# Altium integrated library Linear Technology Power Management Switching Regulator LT1074-LT8705.IntLib: 2252 symbols (part 6 of 148)
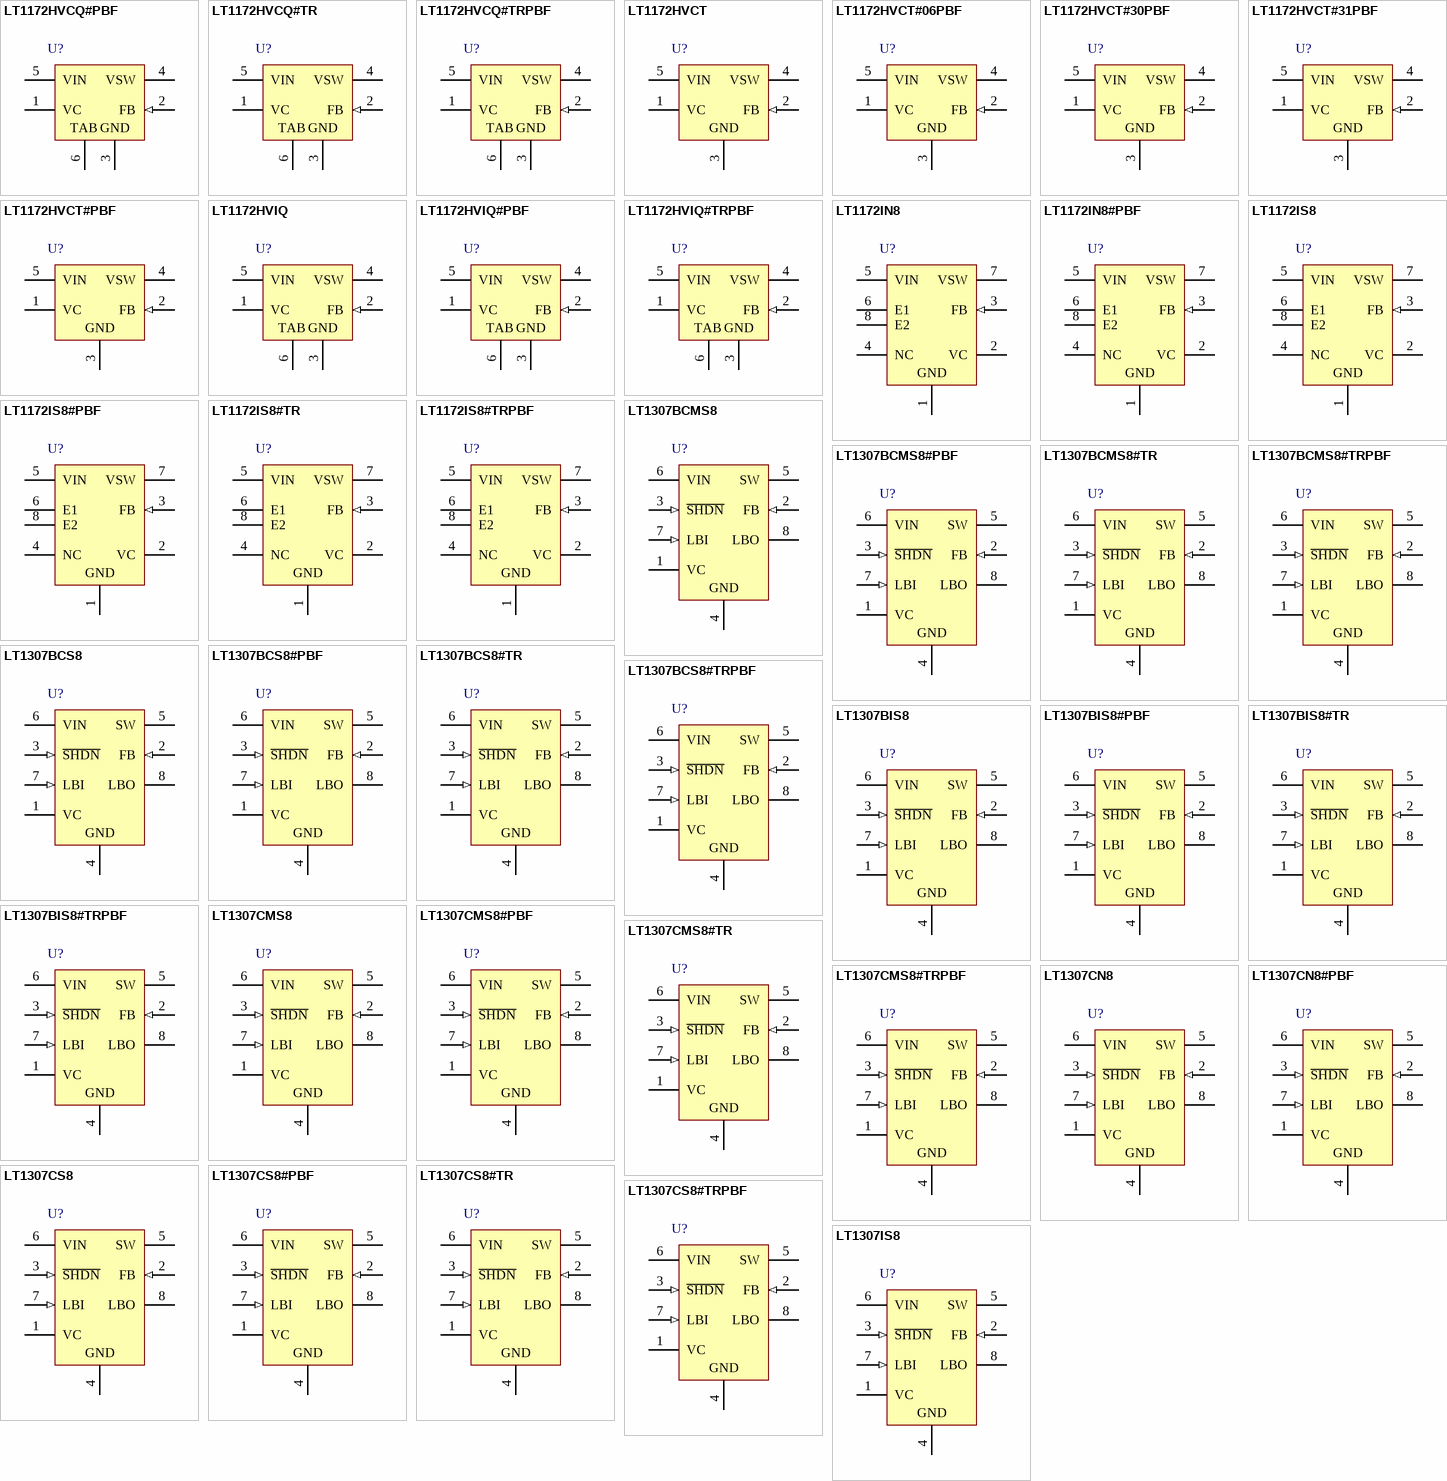
[diagram p76: symbols LT1172HVCQ#PBF to LT1307IS8]

## LT1307BCS8
designator U?
Single Cell Micropower 600 kHz PWM DC/DC Converter, Low-Battery Detector, 8-pin SOIC (S8-8), -20 to 70 degC; Manufacturer: Linear Technology; PartNumber: LT1307BCS8; Number of Outputs: 1; DatasheetVersion: Rev. A; PackageVersion: Rev. G, 03/2012; PackageReference: S8-8; PackageDescription: 8-Pin Plastic Small Outline (Narrow .150 Inch), Body 4.9 x 3.9 mm, Pitch 1.27 mm; Supplier 1: Digi-Key; Supplier Part Number 1: LT1307BCS8-ND; RoHS: FALSE; Mounting Technology: Surface Mount; ComponentLink1Description: Manufacturer URL; ComponentLink1URL: http://www.linear.com/; ComponentLink2Description: Datasheet; ComponentLink2URL: http://cds.linear.com/docs/en/datasheet/1307fa.pdf; ComponentLink3Description: Package Specification; ComponentLink3URL: http://cds.linear.com/docs/en/packaging/05081610_G_SO8.pdf
footprint LT-S8-8_N (SOIC, 8-Leads, Body 5x4mm, Pitch 1.27mm, IPC Medium Density)
footprint LT-S8-8_L (SOIC, 8-Leads, Body 5x4mm, Pitch 1.27mm, IPC High Density)
footprint LT-S8-8_M (SOIC, 8-Leads, Body 5x4mm, Pitch 1.27mm, IPC Low Density)
pins: 1 VC "Compensation Pin for Error Amplifier. Connect a series RC from this pin to ground. Typical values are 100kohm and 680pF. Minimize trace area at VC.", 2 FB (in) "Feedback Pin. Reference voltage is 1.22V. Connect resistor divider tap here. Minimize trace area at FB. Set VOUT according to: VOUT = 1.22V(1 + R1/R2).", 3 ~{SHDN} (in) "Shutdown. Ground this pin to turn off switcher. Must be tied to VIN (or higher voltage) to enable switcher. Do not float the S\H\D\N\ pin.", 4 GND (power) "Ground. Connect directly to local ground plane.", 5 SW "Switch Pin. Connect inductor/diode here. Minimize trace area at this pin to keep EMI down.", 6 VIN (power) "Supply Pin. Must have 1uF ceramic bypass capacitor right at the pin, connected directly to ground.", 7 LBI (in) "Low-Battery Detector Input. 200mV reference. Voltage on LBI must stay between ground and 700mV.", 8 LBO (oc) "Low-Battery Detector Output. Open collector, can sink 10uA. A 1Mohm pull-up is recommended."

## LT1307BCS8#PBF
designator U?
Single Cell Micropower 600 kHz PWM DC/DC Converter, Low-Battery Detector, 8-pin SOIC (S8-8), -20 to 70 degC, Pb-Free; Manufacturer: Linear Technology; PartNumber: LT1307BCS8#PBF; Number of Outputs: 1; DatasheetVersion: Rev. A; PackageVersion: Rev. G, 03/2012; PackageReference: S8-8; PackageDescription: 8-Pin Plastic Small Outline (Narrow .150 Inch), Body 4.9 x 3.9 mm, Pitch 1.27 mm; Supplier 1: Digi-Key; Supplier Part Number 1: LT1307BCS8#PBF-ND; Supplier 2: Farnell; Supplier Part Number 2: 1273725; Supplier 3: Newark; Supplier Part Number 3: 57M3221; RoHS: TRUE; Mounting Technology: Surface Mount; ComponentLink1Description: Manufacturer URL; ComponentLink1URL: http://www.linear.com/; ComponentLink2Description: Datasheet; ComponentLink2URL: http://cds.linear.com/docs/en/datasheet/1307fa.pdf; ComponentLink3Description: Package Specification; ComponentLink3URL: http://cds.linear.com/docs/en/packaging/05081610_G_SO8.pdf
footprint LT-S8-8_N (SOIC, 8-Leads, Body 5x4mm, Pitch 1.27mm, IPC Medium Density)
footprint LT-S8-8_L (SOIC, 8-Leads, Body 5x4mm, Pitch 1.27mm, IPC High Density)
footprint LT-S8-8_M (SOIC, 8-Leads, Body 5x4mm, Pitch 1.27mm, IPC Low Density)
pins: 1 VC "Compensation Pin for Error Amplifier. Connect a series RC from this pin to ground. Typical values are 100kohm and 680pF. Minimize trace area at VC.", 2 FB (in) "Feedback Pin. Reference voltage is 1.22V. Connect resistor divider tap here. Minimize trace area at FB. Set VOUT according to: VOUT = 1.22V(1 + R1/R2).", 3 ~{SHDN} (in) "Shutdown. Ground this pin to turn off switcher. Must be tied to VIN (or higher voltage) to enable switcher. Do not float the S\H\D\N\ pin.", 4 GND (power) "Ground. Connect directly to local ground plane.", 5 SW "Switch Pin. Connect inductor/diode here. Minimize trace area at this pin to keep EMI down.", 6 VIN (power) "Supply Pin. Must have 1uF ceramic bypass capacitor right at the pin, connected directly to ground.", 7 LBI (in) "Low-Battery Detector Input. 200mV reference. Voltage on LBI must stay between ground and 700mV.", 8 LBO (oc) "Low-Battery Detector Output. Open collector, can sink 10uA. A 1Mohm pull-up is recommended."

## LT1307BCS8#TR
designator U?
Single Cell Micropower 600 kHz PWM DC/DC Converter, Low-Battery Detector, 8-pin SOIC (S8-8), -20 to 70 degC, Tape and Reel; Manufacturer: Linear Technology; PartNumber: LT1307BCS8#TR; Number of Outputs: 1; DatasheetVersion: Rev. A; PackageVersion: Rev. G, 03/2012; PackageReference: S8-8; PackageDescription: 8-Pin Plastic Small Outline (Narrow .150 Inch), Body 4.9 x 3.9 mm, Pitch 1.27 mm; Supplier 1: Digi-Key; Supplier Part Number 1: LT1307BCS8#TR-ND; Packing: Tape and Reel; RoHS: FALSE; Mounting Technology: Surface Mount; ComponentLink1Description: Manufacturer URL; ComponentLink1URL: http://www.linear.com/; ComponentLink2Description: Datasheet; ComponentLink2URL: http://cds.linear.com/docs/en/datasheet/1307fa.pdf; ComponentLink3Description: Package Specification; ComponentLink3URL: http://cds.linear.com/docs/en/packaging/05081610_G_SO8.pdf
footprint LT-S8-8_N (SOIC, 8-Leads, Body 5x4mm, Pitch 1.27mm, IPC Medium Density)
footprint LT-S8-8_L (SOIC, 8-Leads, Body 5x4mm, Pitch 1.27mm, IPC High Density)
footprint LT-S8-8_M (SOIC, 8-Leads, Body 5x4mm, Pitch 1.27mm, IPC Low Density)
pins: 1 VC "Compensation Pin for Error Amplifier. Connect a series RC from this pin to ground. Typical values are 100kohm and 680pF. Minimize trace area at VC.", 2 FB (in) "Feedback Pin. Reference voltage is 1.22V. Connect resistor divider tap here. Minimize trace area at FB. Set VOUT according to: VOUT = 1.22V(1 + R1/R2).", 3 ~{SHDN} (in) "Shutdown. Ground this pin to turn off switcher. Must be tied to VIN (or higher voltage) to enable switcher. Do not float the S\H\D\N\ pin.", 4 GND (power) "Ground. Connect directly to local ground plane.", 5 SW "Switch Pin. Connect inductor/diode here. Minimize trace area at this pin to keep EMI down.", 6 VIN (power) "Supply Pin. Must have 1uF ceramic bypass capacitor right at the pin, connected directly to ground.", 7 LBI (in) "Low-Battery Detector Input. 200mV reference. Voltage on LBI must stay between ground and 700mV.", 8 LBO (oc) "Low-Battery Detector Output. Open collector, can sink 10uA. A 1Mohm pull-up is recommended."

## LT1307BCS8#TRPBF
designator U?
Single Cell Micropower 600 kHz PWM DC/DC Converter, Low-Battery Detector, 8-pin SOIC (S8-8), -20 to 70 degC, Pb-Free, Tape and Reel; Manufacturer: Linear Technology; PartNumber: LT1307BCS8#TRPBF; Number of Outputs: 1; DatasheetVersion: Rev. A; PackageVersion: Rev. G, 03/2012; PackageReference: S8-8; PackageDescription: 8-Pin Plastic Small Outline (Narrow .150 Inch), Body 4.9 x 3.9 mm, Pitch 1.27 mm; Supplier 1: Digi-Key; Supplier Part Number 1: LT1307BCS8#TRPBF-ND; Packing: Tape and Reel; RoHS: TRUE; Mounting Technology: Surface Mount; ComponentLink1Description: Manufacturer URL; ComponentLink1URL: http://www.linear.com/; ComponentLink2Description: Datasheet; ComponentLink2URL: http://cds.linear.com/docs/en/datasheet/1307fa.pdf; ComponentLink3Description: Package Specification; ComponentLink3URL: http://cds.linear.com/docs/en/packaging/05081610_G_SO8.pdf
footprint LT-S8-8_N (SOIC, 8-Leads, Body 5x4mm, Pitch 1.27mm, IPC Medium Density)
footprint LT-S8-8_L (SOIC, 8-Leads, Body 5x4mm, Pitch 1.27mm, IPC High Density)
footprint LT-S8-8_M (SOIC, 8-Leads, Body 5x4mm, Pitch 1.27mm, IPC Low Density)
pins: 1 VC "Compensation Pin for Error Amplifier. Connect a series RC from this pin to ground. Typical values are 100kohm and 680pF. Minimize trace area at VC.", 2 FB (in) "Feedback Pin. Reference voltage is 1.22V. Connect resistor divider tap here. Minimize trace area at FB. Set VOUT according to: VOUT = 1.22V(1 + R1/R2).", 3 ~{SHDN} (in) "Shutdown. Ground this pin to turn off switcher. Must be tied to VIN (or higher voltage) to enable switcher. Do not float the S\H\D\N\ pin.", 4 GND (power) "Ground. Connect directly to local ground plane.", 5 SW "Switch Pin. Connect inductor/diode here. Minimize trace area at this pin to keep EMI down.", 6 VIN (power) "Supply Pin. Must have 1uF ceramic bypass capacitor right at the pin, connected directly to ground.", 7 LBI (in) "Low-Battery Detector Input. 200mV reference. Voltage on LBI must stay between ground and 700mV.", 8 LBO (oc) "Low-Battery Detector Output. Open collector, can sink 10uA. A 1Mohm pull-up is recommended."

## LT1307BIS8
designator U?
Single Cell Micropower 600 kHz PWM DC/DC Converter, Low-Battery Detector, 8-pin SOIC (S8-8), -40 to 85 degC; Manufacturer: Linear Technology; PartNumber: LT1307BIS8; Number of Outputs: 1; DatasheetVersion: Rev. A; PackageVersion: Rev. G, 03/2012; PackageReference: S8-8; PackageDescription: 8-Pin Plastic Small Outline (Narrow .150 Inch), Body 4.9 x 3.9 mm, Pitch 1.27 mm; Supplier 1: Digi-Key; Supplier Part Number 1: LT1307BIS8-ND; RoHS: FALSE; Mounting Technology: Surface Mount; ComponentLink1Description: Manufacturer URL; ComponentLink1URL: http://www.linear.com/; ComponentLink2Description: Datasheet; ComponentLink2URL: http://cds.linear.com/docs/en/datasheet/1307fa.pdf; ComponentLink3Description: Package Specification; ComponentLink3URL: http://cds.linear.com/docs/en/packaging/05081610_G_SO8.pdf
footprint LT-S8-8_N (SOIC, 8-Leads, Body 5x4mm, Pitch 1.27mm, IPC Medium Density)
footprint LT-S8-8_L (SOIC, 8-Leads, Body 5x4mm, Pitch 1.27mm, IPC High Density)
footprint LT-S8-8_M (SOIC, 8-Leads, Body 5x4mm, Pitch 1.27mm, IPC Low Density)
pins: 1 VC "Compensation Pin for Error Amplifier. Connect a series RC from this pin to ground. Typical values are 100kohm and 680pF. Minimize trace area at VC.", 2 FB (in) "Feedback Pin. Reference voltage is 1.22V. Connect resistor divider tap here. Minimize trace area at FB. Set VOUT according to: VOUT = 1.22V(1 + R1/R2).", 3 ~{SHDN} (in) "Shutdown. Ground this pin to turn off switcher. Must be tied to VIN (or higher voltage) to enable switcher. Do not float the S\H\D\N\ pin.", 4 GND (power) "Ground. Connect directly to local ground plane.", 5 SW "Switch Pin. Connect inductor/diode here. Minimize trace area at this pin to keep EMI down.", 6 VIN (power) "Supply Pin. Must have 1uF ceramic bypass capacitor right at the pin, connected directly to ground.", 7 LBI (in) "Low-Battery Detector Input. 200mV reference. Voltage on LBI must stay between ground and 700mV.", 8 LBO (oc) "Low-Battery Detector Output. Open collector, can sink 10uA. A 1Mohm pull-up is recommended."

## LT1307BIS8#PBF
designator U?
Single Cell Micropower 600 kHz PWM DC/DC Converter, Low-Battery Detector, 8-pin SOIC (S8-8), -40 to 85 degC, Pb-Free; Manufacturer: Linear Technology; PartNumber: LT1307BIS8#PBF; Number of Outputs: 1; DatasheetVersion: Rev. A; PackageVersion: Rev. G, 03/2012; PackageReference: S8-8; PackageDescription: 8-Pin Plastic Small Outline (Narrow .150 Inch), Body 4.9 x 3.9 mm, Pitch 1.27 mm; Supplier 1: Digi-Key; Supplier Part Number 1: LT1307BIS8#PBF-ND; RoHS: TRUE; Mounting Technology: Surface Mount; ComponentLink1Description: Manufacturer URL; ComponentLink1URL: http://www.linear.com/; ComponentLink2Description: Datasheet; ComponentLink2URL: http://cds.linear.com/docs/en/datasheet/1307fa.pdf; ComponentLink3Description: Package Specification; ComponentLink3URL: http://cds.linear.com/docs/en/packaging/05081610_G_SO8.pdf
footprint LT-S8-8_N (SOIC, 8-Leads, Body 5x4mm, Pitch 1.27mm, IPC Medium Density)
footprint LT-S8-8_L (SOIC, 8-Leads, Body 5x4mm, Pitch 1.27mm, IPC High Density)
footprint LT-S8-8_M (SOIC, 8-Leads, Body 5x4mm, Pitch 1.27mm, IPC Low Density)
pins: 1 VC "Compensation Pin for Error Amplifier. Connect a series RC from this pin to ground. Typical values are 100kohm and 680pF. Minimize trace area at VC.", 2 FB (in) "Feedback Pin. Reference voltage is 1.22V. Connect resistor divider tap here. Minimize trace area at FB. Set VOUT according to: VOUT = 1.22V(1 + R1/R2).", 3 ~{SHDN} (in) "Shutdown. Ground this pin to turn off switcher. Must be tied to VIN (or higher voltage) to enable switcher. Do not float the S\H\D\N\ pin.", 4 GND (power) "Ground. Connect directly to local ground plane.", 5 SW "Switch Pin. Connect inductor/diode here. Minimize trace area at this pin to keep EMI down.", 6 VIN (power) "Supply Pin. Must have 1uF ceramic bypass capacitor right at the pin, connected directly to ground.", 7 LBI (in) "Low-Battery Detector Input. 200mV reference. Voltage on LBI must stay between ground and 700mV.", 8 LBO (oc) "Low-Battery Detector Output. Open collector, can sink 10uA. A 1Mohm pull-up is recommended."

## LT1307BIS8#TR
designator U?
Single Cell Micropower 600 kHz PWM DC/DC Converter, Low-Battery Detector, 8-pin SOIC (S8-8), -40 to 85 degC, Tape and Reel; Manufacturer: Linear Technology; PartNumber: LT1307BIS8#TR; Number of Outputs: 1; DatasheetVersion: Rev. A; PackageVersion: Rev. G, 03/2012; PackageReference: S8-8; PackageDescription: 8-Pin Plastic Small Outline (Narrow .150 Inch), Body 4.9 x 3.9 mm, Pitch 1.27 mm; Supplier 1: Digi-Key; Supplier Part Number 1: LT1307BIS8#TR-ND; Packing: Tape and Reel; RoHS: FALSE; Mounting Technology: Surface Mount; ComponentLink1Description: Manufacturer URL; ComponentLink1URL: http://www.linear.com/; ComponentLink2Description: Datasheet; ComponentLink2URL: http://cds.linear.com/docs/en/datasheet/1307fa.pdf; ComponentLink3Description: Package Specification; ComponentLink3URL: http://cds.linear.com/docs/en/packaging/05081610_G_SO8.pdf
footprint LT-S8-8_N (SOIC, 8-Leads, Body 5x4mm, Pitch 1.27mm, IPC Medium Density)
footprint LT-S8-8_L (SOIC, 8-Leads, Body 5x4mm, Pitch 1.27mm, IPC High Density)
footprint LT-S8-8_M (SOIC, 8-Leads, Body 5x4mm, Pitch 1.27mm, IPC Low Density)
pins: 1 VC "Compensation Pin for Error Amplifier. Connect a series RC from this pin to ground. Typical values are 100kohm and 680pF. Minimize trace area at VC.", 2 FB (in) "Feedback Pin. Reference voltage is 1.22V. Connect resistor divider tap here. Minimize trace area at FB. Set VOUT according to: VOUT = 1.22V(1 + R1/R2).", 3 ~{SHDN} (in) "Shutdown. Ground this pin to turn off switcher. Must be tied to VIN (or higher voltage) to enable switcher. Do not float the S\H\D\N\ pin.", 4 GND (power) "Ground. Connect directly to local ground plane.", 5 SW "Switch Pin. Connect inductor/diode here. Minimize trace area at this pin to keep EMI down.", 6 VIN (power) "Supply Pin. Must have 1uF ceramic bypass capacitor right at the pin, connected directly to ground.", 7 LBI (in) "Low-Battery Detector Input. 200mV reference. Voltage on LBI must stay between ground and 700mV.", 8 LBO (oc) "Low-Battery Detector Output. Open collector, can sink 10uA. A 1Mohm pull-up is recommended."

## LT1307BIS8#TRPBF
designator U?
Single Cell Micropower 600 kHz PWM DC/DC Converter, Low-Battery Detector, 8-pin SOIC (S8-8), -40 to 85 degC, Pb-Free, Tape and Reel; Manufacturer: Linear Technology; PartNumber: LT1307BIS8#TRPBF; Number of Outputs: 1; DatasheetVersion: Rev. A; PackageVersion: Rev. G, 03/2012; PackageReference: S8-8; PackageDescription: 8-Pin Plastic Small Outline (Narrow .150 Inch), Body 4.9 x 3.9 mm, Pitch 1.27 mm; Supplier 1: Digi-Key; Supplier Part Number 1: LT1307BIS8#TRPBF-ND; Packing: Tape and Reel; RoHS: TRUE; Mounting Technology: Surface Mount; ComponentLink1Description: Manufacturer URL; ComponentLink1URL: http://www.linear.com/; ComponentLink2Description: Datasheet; ComponentLink2URL: http://cds.linear.com/docs/en/datasheet/1307fa.pdf; ComponentLink3Description: Package Specification; ComponentLink3URL: http://cds.linear.com/docs/en/packaging/05081610_G_SO8.pdf
footprint LT-S8-8_N (SOIC, 8-Leads, Body 5x4mm, Pitch 1.27mm, IPC Medium Density)
footprint LT-S8-8_L (SOIC, 8-Leads, Body 5x4mm, Pitch 1.27mm, IPC High Density)
footprint LT-S8-8_M (SOIC, 8-Leads, Body 5x4mm, Pitch 1.27mm, IPC Low Density)
pins: 1 VC "Compensation Pin for Error Amplifier. Connect a series RC from this pin to ground. Typical values are 100kohm and 680pF. Minimize trace area at VC.", 2 FB (in) "Feedback Pin. Reference voltage is 1.22V. Connect resistor divider tap here. Minimize trace area at FB. Set VOUT according to: VOUT = 1.22V(1 + R1/R2).", 3 ~{SHDN} (in) "Shutdown. Ground this pin to turn off switcher. Must be tied to VIN (or higher voltage) to enable switcher. Do not float the S\H\D\N\ pin.", 4 GND (power) "Ground. Connect directly to local ground plane.", 5 SW "Switch Pin. Connect inductor/diode here. Minimize trace area at this pin to keep EMI down.", 6 VIN (power) "Supply Pin. Must have 1uF ceramic bypass capacitor right at the pin, connected directly to ground.", 7 LBI (in) "Low-Battery Detector Input. 200mV reference. Voltage on LBI must stay between ground and 700mV.", 8 LBO (oc) "Low-Battery Detector Output. Open collector, can sink 10uA. A 1Mohm pull-up is recommended."

## LT1307CMS8
designator U?
Single Cell Micropower 600 kHz PWM DC/DC Converter, 8-pin SOP (MS8-8), -20 to 70 degC; Manufacturer: Linear Technology; PartNumber: LT1307CMS8; Number of Outputs: 1; DatasheetVersion: Rev. A; PackageVersion: Rev. G, 05/2013; PackageReference: MS8; PackageDescription: 8-Pin Plastic MSOP, Body 3 x 3 mm, Pitch 0.65 mm; Supplier 1: Digi-Key; Supplier Part Number 1: LT1307CMS8-ND; RoHS: FALSE; Mounting Technology: Surface Mount; ComponentLink1Description: Manufacturer URL; ComponentLink1URL: http://www.linear.com/; ComponentLink2Description: Datasheet; ComponentLink2URL: http://cds.linear.com/docs/en/datasheet/1307fa.pdf; ComponentLink3Description: Package Specification; ComponentLink3URL: http://cds.linear.com/docs/en/packaging/05081660_G_MS8.pdf
footprint LT-MS8_N (SOP, 8-Leads, Body 3.1x3.1mm, Pitch 0.65mm, IPC Medium Density)
footprint LT-MS8_L (SOP, 8-Leads, Body 3.1x3.1mm, Pitch 0.65mm, IPC High Density)
footprint LT-MS8_M (SOP, 8-Leads, Body 3.1x3.1mm, Pitch 0.65mm, IPC Low Density)
pins: 1 VC "Compensation Pin for Error Amplifier.", 2 FB (in) "Feedback Pin.", 3 ~{SHDN} (in) "Shutdown.", 4 GND (power) "Ground. Connect directly to local ground plane.", 5 SW (power) "Switch Pin. Connect inductor/diode here. Minimize trace area at this pin to keep EMI down.", 6 VIN (power) "Supply Pin.", 7 LBI (in) "Low-Battery Detector Input. 200mV reference. Voltage on LBI must stay between ground and 700mV.", 8 LBO (oc) "Low-Battery Detector Output. Open collector, can sink 10uA. A 1Mohm pull-up is recommended."

## LT1307CMS8#PBF
designator U?
Single Cell Micropower 600 kHz PWM DC/DC Converter, 8-pin SOP (MS8-8), -20 to 70 degC, Pb-Free; Manufacturer: Linear Technology; PartNumber: LT1307CMS8#PBF; Number of Outputs: 1; DatasheetVersion: Rev. A; PackageVersion: Rev. G, 05/2013; PackageReference: MS8; PackageDescription: 8-Pin Plastic MSOP, Body 3 x 3 mm, Pitch 0.65 mm; Supplier 1: Digi-Key; Supplier Part Number 1: LT1307CMS8#PBF-ND; RoHS: TRUE; Mounting Technology: Surface Mount; ComponentLink1Description: Manufacturer URL; ComponentLink1URL: http://www.linear.com/; ComponentLink2Description: Datasheet; ComponentLink2URL: http://cds.linear.com/docs/en/datasheet/1307fa.pdf; ComponentLink3Description: Package Specification; ComponentLink3URL: http://cds.linear.com/docs/en/packaging/05081660_G_MS8.pdf
footprint LT-MS8_N (SOP, 8-Leads, Body 3.1x3.1mm, Pitch 0.65mm, IPC Medium Density)
footprint LT-MS8_L (SOP, 8-Leads, Body 3.1x3.1mm, Pitch 0.65mm, IPC High Density)
footprint LT-MS8_M (SOP, 8-Leads, Body 3.1x3.1mm, Pitch 0.65mm, IPC Low Density)
pins: 1 VC "Compensation Pin for Error Amplifier.", 2 FB (in) "Feedback Pin.", 3 ~{SHDN} (in) "Shutdown.", 4 GND (power) "Ground. Connect directly to local ground plane.", 5 SW (power) "Switch Pin. Connect inductor/diode here. Minimize trace area at this pin to keep EMI down.", 6 VIN (power) "Supply Pin.", 7 LBI (in) "Low-Battery Detector Input. 200mV reference. Voltage on LBI must stay between ground and 700mV.", 8 LBO (oc) "Low-Battery Detector Output. Open collector, can sink 10uA. A 1Mohm pull-up is recommended."

## LT1307CMS8#TR
designator U?
Single Cell Micropower 600 kHz PWM DC/DC Converter, 8-pin SOP (MS8-8), -20 to 70 degC, Tape and Reel; Manufacturer: Linear Technology; PartNumber: LT1307CMS8#TR; Number of Outputs: 1; DatasheetVersion: Rev. A; PackageVersion: Rev. G, 05/2013; PackageReference: MS8; PackageDescription: 8-Pin Plastic MSOP, Body 3 x 3 mm, Pitch 0.65 mm; Supplier 1: Digi-Key; Supplier Part Number 1: LT1307CMS8#TR-ND; Packing: Tape and Reel; RoHS: FALSE; Mounting Technology: Surface Mount; ComponentLink1Description: Manufacturer URL; ComponentLink1URL: http://www.linear.com/; ComponentLink2Description: Datasheet; ComponentLink2URL: http://cds.linear.com/docs/en/datasheet/1307fa.pdf; ComponentLink3Description: Package Specification; ComponentLink3URL: http://cds.linear.com/docs/en/packaging/05081660_G_MS8.pdf
footprint LT-MS8_N (SOP, 8-Leads, Body 3.1x3.1mm, Pitch 0.65mm, IPC Medium Density)
footprint LT-MS8_L (SOP, 8-Leads, Body 3.1x3.1mm, Pitch 0.65mm, IPC High Density)
footprint LT-MS8_M (SOP, 8-Leads, Body 3.1x3.1mm, Pitch 0.65mm, IPC Low Density)
pins: 1 VC "Compensation Pin for Error Amplifier.", 2 FB (in) "Feedback Pin.", 3 ~{SHDN} (in) "Shutdown.", 4 GND (power) "Ground. Connect directly to local ground plane.", 5 SW (power) "Switch Pin. Connect inductor/diode here. Minimize trace area at this pin to keep EMI down.", 6 VIN (power) "Supply Pin.", 7 LBI (in) "Low-Battery Detector Input. 200mV reference. Voltage on LBI must stay between ground and 700mV.", 8 LBO (oc) "Low-Battery Detector Output. Open collector, can sink 10uA. A 1Mohm pull-up is recommended."

## LT1307CMS8#TRPBF
designator U?
Single Cell Micropower 600 kHz PWM DC/DC Converter, 8-pin SOP (MS8-8), -20 to 70 degC, Pb-Free, Tape and Reel; Manufacturer: Linear Technology; PartNumber: LT1307CMS8#TRPBF; Number of Outputs: 1; DatasheetVersion: Rev. A; PackageVersion: Rev. G, 05/2013; PackageReference: MS8; PackageDescription: 8-Pin Plastic MSOP, Body 3 x 3 mm, Pitch 0.65 mm; Supplier 1: Digi-Key; Supplier Part Number 1: LT1307CMS8#TRPBF-ND; Supplier 2: Newark; Supplier Part Number 2: 57M3231; Packing: Tape and Reel; RoHS: TRUE; Mounting Technology: Surface Mount; ComponentLink1Description: Manufacturer URL; ComponentLink1URL: http://www.linear.com/; ComponentLink2Description: Datasheet; ComponentLink2URL: http://cds.linear.com/docs/en/datasheet/1307fa.pdf; ComponentLink3Description: Package Specification; ComponentLink3URL: http://cds.linear.com/docs/en/packaging/05081660_G_MS8.pdf
footprint LT-MS8_N (SOP, 8-Leads, Body 3.1x3.1mm, Pitch 0.65mm, IPC Medium Density)
footprint LT-MS8_L (SOP, 8-Leads, Body 3.1x3.1mm, Pitch 0.65mm, IPC High Density)
footprint LT-MS8_M (SOP, 8-Leads, Body 3.1x3.1mm, Pitch 0.65mm, IPC Low Density)
pins: 1 VC "Compensation Pin for Error Amplifier.", 2 FB (in) "Feedback Pin.", 3 ~{SHDN} (in) "Shutdown.", 4 GND (power) "Ground. Connect directly to local ground plane.", 5 SW (power) "Switch Pin. Connect inductor/diode here. Minimize trace area at this pin to keep EMI down.", 6 VIN (power) "Supply Pin.", 7 LBI (in) "Low-Battery Detector Input. 200mV reference. Voltage on LBI must stay between ground and 700mV.", 8 LBO (oc) "Low-Battery Detector Output. Open collector, can sink 10uA. A 1Mohm pull-up is recommended."

## LT1307CN8
designator U?
Single Cell Micropower 600 kHz PWM DC/DC Converter, 8-pin DIP (N8-8), -20 to 70 degC; Manufacturer: Linear Technology; PartNumber: LT1307CN8; Number of Outputs: 1; DatasheetVersion: Rev. A; PackageVersion: Rev. I, 07/2011; PackageReference: N8-8; PackageDescription: 8-Pin PDIP, Body 10.16 x 6.48 mm, Pitch 2.54 mm; Supplier 1: Digi-Key; Supplier Part Number 1: LT1307CN8-ND; RoHS: FALSE; Mounting Technology: Through Hole; ComponentLink1Description: Manufacturer URL; ComponentLink1URL: http://www.linear.com/; ComponentLink2Description: Datasheet; ComponentLink2URL: http://cds.linear.com/docs/en/datasheet/1307fa.pdf; ComponentLink3Description: Package Specification; ComponentLink3URL: http://www.linear.com/docs/en/packaging/05081510_I_N8.pdf
footprint LT-N8-8 (DIP, 8-Leads, Body 10.15x6.85mm, Pitch 2.54mm)
pins: 1 VC "Compensation Pin for Error Amplifier.", 2 FB (in) "Feedback Pin.", 3 ~{SHDN} (in) "Shutdown.", 4 GND (power) "Ground. Connect directly to local ground plane.", 5 SW (power) "Switch Pin. Connect inductor/diode here. Minimize trace area at this pin to keep EMI down.", 6 VIN (power) "Supply Pin.", 7 LBI (in) "Low-Battery Detector Input. 200mV reference. Voltage on LBI must stay between ground and 700mV.", 8 LBO (oc) "Low-Battery Detector Output. Open collector, can sink 10uA. A 1Mohm pull-up is recommended."

## LT1307CN8#PBF
designator U?
Single Cell Micropower 600 kHz PWM DC/DC Converter, 8-pin DIP (N8-8), -20 to 70 degC, Pb-Free; Manufacturer: Linear Technology; PartNumber: LT1307CN8#PBF; Number of Outputs: 1; DatasheetVersion: Rev. A; PackageVersion: Rev. I, 07/2011; PackageReference: N8-8; PackageDescription: 8-Pin PDIP, Body 10.16 x 6.48 mm, Pitch 2.54 mm; Supplier 1: Digi-Key; Supplier Part Number 1: LT1307CN8#PBF-ND; Supplier 2: Farnell; Supplier Part Number 2: 9560394; Supplier 3: Newark; Supplier Part Number 3: 57M3233; RoHS: TRUE; Mounting Technology: Through Hole; ComponentLink1Description: Manufacturer URL; ComponentLink1URL: http://www.linear.com/; ComponentLink2Description: Datasheet; ComponentLink2URL: http://cds.linear.com/docs/en/datasheet/1307fa.pdf; ComponentLink3Description: Package Specification; ComponentLink3URL: http://www.linear.com/docs/en/packaging/05081510_I_N8.pdf
footprint LT-N8-8 (DIP, 8-Leads, Body 10.15x6.85mm, Pitch 2.54mm)
pins: 1 VC "Compensation Pin for Error Amplifier.", 2 FB (in) "Feedback Pin.", 3 ~{SHDN} (in) "Shutdown.", 4 GND (power) "Ground. Connect directly to local ground plane.", 5 SW (power) "Switch Pin. Connect inductor/diode here. Minimize trace area at this pin to keep EMI down.", 6 VIN (power) "Supply Pin.", 7 LBI (in) "Low-Battery Detector Input. 200mV reference. Voltage on LBI must stay between ground and 700mV.", 8 LBO (oc) "Low-Battery Detector Output. Open collector, can sink 10uA. A 1Mohm pull-up is recommended."

## LT1307CS8
designator U?
Single Cell Micropower 600 kHz PWM DC/DC Converter, 8-pin SOIC (S8-8), -20 to 70 degC; Manufacturer: Linear Technology; PartNumber: LT1307CS8; Number of Outputs: 1; DatasheetVersion: Rev. A; PackageVersion: Rev. G, 03/2012; PackageReference: S8-8; PackageDescription: 8-Pin Plastic Small Outline (Narrow .150 Inch), Body 4.9 x 3.9 mm, Pitch 1.27 mm; Supplier 1: Digi-Key; Supplier Part Number 1: LT1307CS8-ND; RoHS: FALSE; Mounting Technology: Surface Mount; ComponentLink1Description: Manufacturer URL; ComponentLink1URL: http://www.linear.com/; ComponentLink2Description: Datasheet; ComponentLink2URL: http://cds.linear.com/docs/en/datasheet/1307fa.pdf; ComponentLink3Description: Package Specification; ComponentLink3URL: http://cds.linear.com/docs/en/packaging/05081610_G_SO8.pdf
footprint LT-S8-8_N (SOIC, 8-Leads, Body 5x4mm, Pitch 1.27mm, IPC Medium Density)
footprint LT-S8-8_L (SOIC, 8-Leads, Body 5x4mm, Pitch 1.27mm, IPC High Density)
footprint LT-S8-8_M (SOIC, 8-Leads, Body 5x4mm, Pitch 1.27mm, IPC Low Density)
pins: 1 VC "Compensation Pin for Error Amplifier.", 2 FB (in) "Feedback Pin.", 3 ~{SHDN} (in) "Shutdown.", 4 GND (power) "Ground. Connect directly to local ground plane.", 5 SW (power) "Switch Pin. Connect inductor/diode here. Minimize trace area at this pin to keep EMI down.", 6 VIN (power) "Supply Pin.", 7 LBI (in) "Low-Battery Detector Input. 200mV reference. Voltage on LBI must stay between ground and 700mV.", 8 LBO (oc) "Low-Battery Detector Output. Open collector, can sink 10uA. A 1Mohm pull-up is recommended."

## LT1307CS8#PBF
designator U?
Single Cell Micropower 600 kHz PWM DC/DC Converter, 8-pin SOIC (S8-8), -20 to 70 degC, Pb-Free; Manufacturer: Linear Technology; PartNumber: LT1307CS8#PBF; Number of Outputs: 1; DatasheetVersion: Rev. A; PackageVersion: Rev. G, 03/2012; PackageReference: S8-8; PackageDescription: 8-Pin Plastic Small Outline (Narrow .150 Inch), Body 4.9 x 3.9 mm, Pitch 1.27 mm; Supplier 1: Digi-Key; Supplier Part Number 1: LT1307CS8#PBF-ND; Supplier 2: Farnell; Supplier Part Number 2: 9560408; Supplier 3: Newark; Supplier Part Number 3: 57M3235; RoHS: TRUE; Mounting Technology: Surface Mount; ComponentLink1Description: Manufacturer URL; ComponentLink1URL: http://www.linear.com/; ComponentLink2Description: Datasheet; ComponentLink2URL: http://cds.linear.com/docs/en/datasheet/1307fa.pdf; ComponentLink3Description: Package Specification; ComponentLink3URL: http://cds.linear.com/docs/en/packaging/05081610_G_SO8.pdf
footprint LT-S8-8_N (SOIC, 8-Leads, Body 5x4mm, Pitch 1.27mm, IPC Medium Density)
footprint LT-S8-8_L (SOIC, 8-Leads, Body 5x4mm, Pitch 1.27mm, IPC High Density)
footprint LT-S8-8_M (SOIC, 8-Leads, Body 5x4mm, Pitch 1.27mm, IPC Low Density)
pins: 1 VC "Compensation Pin for Error Amplifier.", 2 FB (in) "Feedback Pin.", 3 ~{SHDN} (in) "Shutdown.", 4 GND (power) "Ground. Connect directly to local ground plane.", 5 SW (power) "Switch Pin. Connect inductor/diode here. Minimize trace area at this pin to keep EMI down.", 6 VIN (power) "Supply Pin.", 7 LBI (in) "Low-Battery Detector Input. 200mV reference. Voltage on LBI must stay between ground and 700mV.", 8 LBO (oc) "Low-Battery Detector Output. Open collector, can sink 10uA. A 1Mohm pull-up is recommended."

## LT1307CS8#TR
designator U?
Single Cell Micropower 600 kHz PWM DC/DC Converter, 8-pin SOIC (S8-8), -20 to 70 degC, Tape and Reel; Manufacturer: Linear Technology; PartNumber: LT1307CS8#TR; Number of Outputs: 1; DatasheetVersion: Rev. A; PackageVersion: Rev. G, 03/2012; PackageReference: S8-8; PackageDescription: 8-Pin Plastic Small Outline (Narrow .150 Inch), Body 4.9 x 3.9 mm, Pitch 1.27 mm; Supplier 1: Digi-Key; Supplier Part Number 1: LT1307CS8#TR-ND; Packing: Tape and Reel; RoHS: FALSE; Mounting Technology: Surface Mount; ComponentLink1Description: Manufacturer URL; ComponentLink1URL: http://www.linear.com/; ComponentLink2Description: Datasheet; ComponentLink2URL: http://cds.linear.com/docs/en/datasheet/1307fa.pdf; ComponentLink3Description: Package Specification; ComponentLink3URL: http://cds.linear.com/docs/en/packaging/05081610_G_SO8.pdf
footprint LT-S8-8_N (SOIC, 8-Leads, Body 5x4mm, Pitch 1.27mm, IPC Medium Density)
footprint LT-S8-8_L (SOIC, 8-Leads, Body 5x4mm, Pitch 1.27mm, IPC High Density)
footprint LT-S8-8_M (SOIC, 8-Leads, Body 5x4mm, Pitch 1.27mm, IPC Low Density)
pins: 1 VC "Compensation Pin for Error Amplifier.", 2 FB (in) "Feedback Pin.", 3 ~{SHDN} (in) "Shutdown.", 4 GND (power) "Ground. Connect directly to local ground plane.", 5 SW (power) "Switch Pin. Connect inductor/diode here. Minimize trace area at this pin to keep EMI down.", 6 VIN (power) "Supply Pin.", 7 LBI (in) "Low-Battery Detector Input. 200mV reference. Voltage on LBI must stay between ground and 700mV.", 8 LBO (oc) "Low-Battery Detector Output. Open collector, can sink 10uA. A 1Mohm pull-up is recommended."

## LT1307CS8#TRPBF
designator U?
Single Cell Micropower 600 kHz PWM DC/DC Converter, 8-pin SOIC (S8-8), -20 to 70 degC, Pb-Free, Tape and Reel; Manufacturer: Linear Technology; PartNumber: LT1307CS8#TRPBF; Number of Outputs: 1; DatasheetVersion: Rev. A; PackageVersion: Rev. G, 03/2012; PackageReference: S8-8; PackageDescription: 8-Pin Plastic Small Outline (Narrow .150 Inch), Body 4.9 x 3.9 mm, Pitch 1.27 mm; Supplier 1: Digi-Key; Supplier Part Number 1: LT1307CS8#TRPBF-ND; Packing: Tape and Reel; RoHS: TRUE; Mounting Technology: Surface Mount; ComponentLink1Description: Manufacturer URL; ComponentLink1URL: http://www.linear.com/; ComponentLink2Description: Datasheet; ComponentLink2URL: http://cds.linear.com/docs/en/datasheet/1307fa.pdf; ComponentLink3Description: Package Specification; ComponentLink3URL: http://cds.linear.com/docs/en/packaging/05081610_G_SO8.pdf
footprint LT-S8-8_N (SOIC, 8-Leads, Body 5x4mm, Pitch 1.27mm, IPC Medium Density)
footprint LT-S8-8_L (SOIC, 8-Leads, Body 5x4mm, Pitch 1.27mm, IPC High Density)
footprint LT-S8-8_M (SOIC, 8-Leads, Body 5x4mm, Pitch 1.27mm, IPC Low Density)
pins: 1 VC "Compensation Pin for Error Amplifier.", 2 FB (in) "Feedback Pin.", 3 ~{SHDN} (in) "Shutdown.", 4 GND (power) "Ground. Connect directly to local ground plane.", 5 SW (power) "Switch Pin. Connect inductor/diode here. Minimize trace area at this pin to keep EMI down.", 6 VIN (power) "Supply Pin.", 7 LBI (in) "Low-Battery Detector Input. 200mV reference. Voltage on LBI must stay between ground and 700mV.", 8 LBO (oc) "Low-Battery Detector Output. Open collector, can sink 10uA. A 1Mohm pull-up is recommended."

## LT1307IS8
designator U?
Single Cell Micropower 600 kHz PWM DC/DC Converter, 8-pin SOIC (S8-8), -40 to 85 degC; Manufacturer: Linear Technology; PartNumber: LT1307IS8; Number of Outputs: 1; DatasheetVersion: Rev. A; PackageVersion: Rev. G, 03/2012; PackageReference: S8-8; PackageDescription: 8-Pin Plastic Small Outline (Narrow .150 Inch), Body 4.9 x 3.9 mm, Pitch 1.27 mm; Supplier 1: Digi-Key; Supplier Part Number 1: LT1307IS8-ND; RoHS: FALSE; Mounting Technology: Surface Mount; ComponentLink1Description: Manufacturer URL; ComponentLink1URL: http://www.linear.com/; ComponentLink2Description: Datasheet; ComponentLink2URL: http://cds.linear.com/docs/en/datasheet/1307fa.pdf; ComponentLink3Description: Package Specification; ComponentLink3URL: http://cds.linear.com/docs/en/packaging/05081610_G_SO8.pdf
footprint LT-S8-8_N (SOIC, 8-Leads, Body 5x4mm, Pitch 1.27mm, IPC Medium Density)
footprint LT-S8-8_L (SOIC, 8-Leads, Body 5x4mm, Pitch 1.27mm, IPC High Density)
footprint LT-S8-8_M (SOIC, 8-Leads, Body 5x4mm, Pitch 1.27mm, IPC Low Density)
pins: 1 VC "Compensation Pin for Error Amplifier.", 2 FB (in) "Feedback Pin.", 3 ~{SHDN} (in) "Shutdown.", 4 GND (power) "Ground. Connect directly to local ground plane.", 5 SW (power) "Switch Pin. Connect inductor/diode here. Minimize trace area at this pin to keep EMI down.", 6 VIN (power) "Supply Pin.", 7 LBI (in) "Low-Battery Detector Input. 200mV reference. Voltage on LBI must stay between ground and 700mV.", 8 LBO (oc) "Low-Battery Detector Output. Open collector, can sink 10uA. A 1Mohm pull-up is recommended."

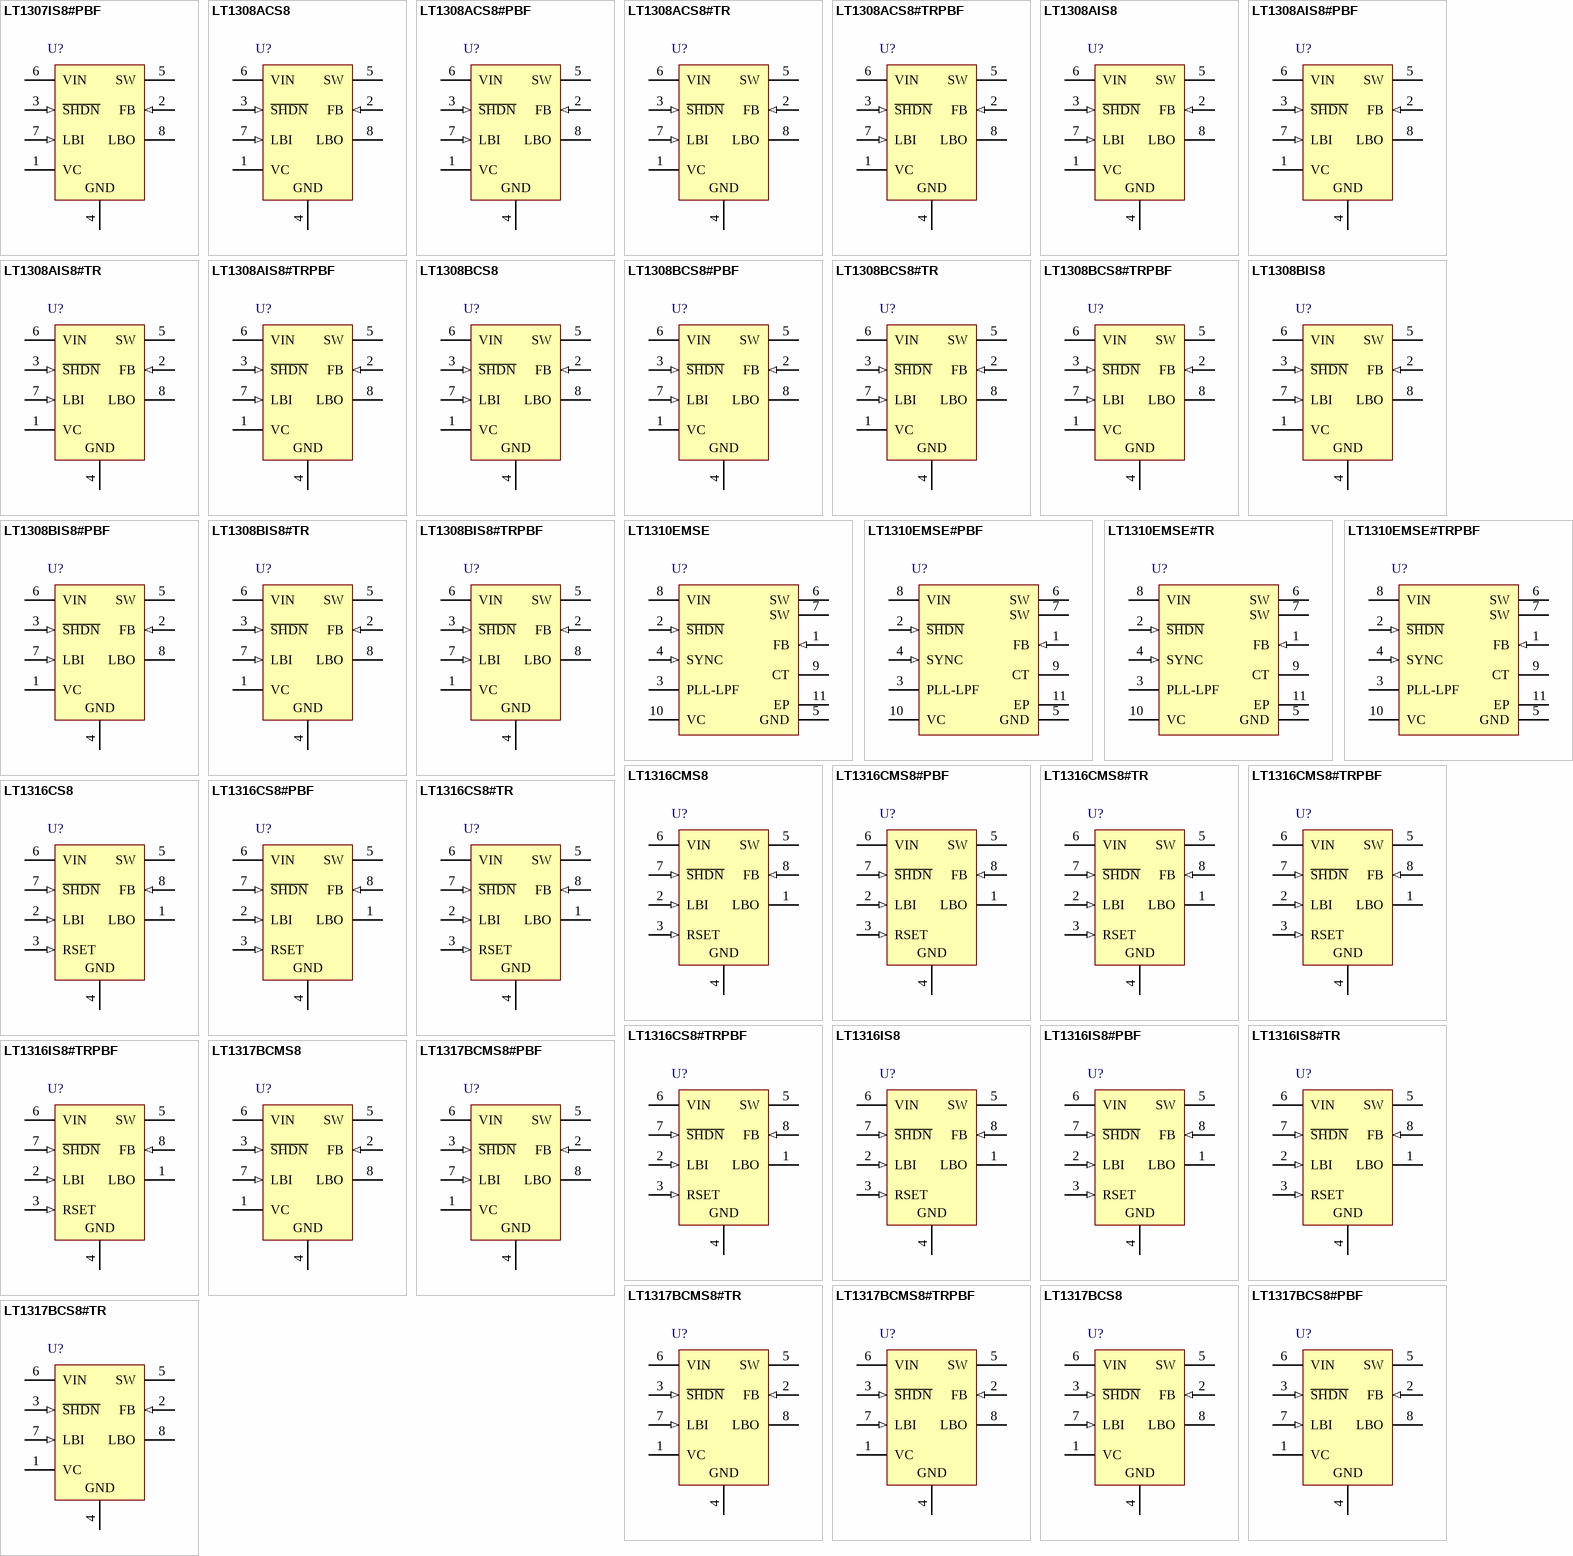
[diagram p5: symbols LT1307IS8#PBF to LT1317BCS8#TR]

## LT1307IS8#PBF
designator U?
Single Cell Micropower 600 kHz PWM DC/DC Converter, 8-pin SOIC (S8-8), -40 to 85 degC, Pb-Free; Manufacturer: Linear Technology; PartNumber: LT1307IS8#PBF; Number of Outputs: 1; DatasheetVersion: Rev. A; PackageVersion: Rev. G, 03/2012; PackageReference: S8-8; PackageDescription: 8-Pin Plastic Small Outline (Narrow .150 Inch), Body 4.9 x 3.9 mm, Pitch 1.27 mm; Supplier 1: Digi-Key; Supplier Part Number 1: LT1307IS8#PBF-ND; RoHS: TRUE; Mounting Technology: Surface Mount; ComponentLink1Description: Manufacturer URL; ComponentLink1URL: http://www.linear.com/; ComponentLink2Description: Datasheet; ComponentLink2URL: http://cds.linear.com/docs/en/datasheet/1307fa.pdf; ComponentLink3Description: Package Specification; ComponentLink3URL: http://cds.linear.com/docs/en/packaging/05081610_G_SO8.pdf
footprint LT-S8-8_N (SOIC, 8-Leads, Body 5x4mm, Pitch 1.27mm, IPC Medium Density)
footprint LT-S8-8_L (SOIC, 8-Leads, Body 5x4mm, Pitch 1.27mm, IPC High Density)
footprint LT-S8-8_M (SOIC, 8-Leads, Body 5x4mm, Pitch 1.27mm, IPC Low Density)
pins: 1 VC "Compensation Pin for Error Amplifier.", 2 FB (in) "Feedback Pin.", 3 ~{SHDN} (in) "Shutdown.", 4 GND (power) "Ground. Connect directly to local ground plane.", 5 SW (power) "Switch Pin. Connect inductor/diode here. Minimize trace area at this pin to keep EMI down.", 6 VIN (power) "Supply Pin.", 7 LBI (in) "Low-Battery Detector Input. 200mV reference. Voltage on LBI must stay between ground and 700mV.", 8 LBO (oc) "Low-Battery Detector Output. Open collector, can sink 10uA. A 1Mohm pull-up is recommended."

## LT1308ACS8
designator U?
Single Cell High Current Micropower 600 kHz Boost DC/DC Converter, 8-pin SOIC (S8-8), 0 to 70 degC; Manufacturer: Linear Technology; PartNumber: LT1308ACS8; Number of Outputs: 1; DatasheetVersion: Rev. B; PackageVersion: Rev. G, 03/2012; PackageReference: S8-8; PackageDescription: 8-Pin Plastic Small Outline (Narrow .150 Inch), Body 4.9 x 3.9 mm, Pitch 1.27 mm; Supplier 1: Digi-Key; Supplier Part Number 1: LT1308ACS8-ND; RoHS: FALSE; Mounting Technology: Surface Mount; ComponentLink1Description: Manufacturer URL; ComponentLink1URL: http://www.linear.com/; ComponentLink2Description: Datasheet; ComponentLink2URL: http://cds.linear.com/docs/en/datasheet/1308abfb.pdf; ComponentLink3Description: Package Specification; ComponentLink3URL: http://cds.linear.com/docs/en/packaging/05081610_G_SO8.pdf
footprint LT-S8-8_N (SOIC, 8-Leads, Body 5x4mm, Pitch 1.27mm, IPC Medium Density)
footprint LT-S8-8_L (SOIC, 8-Leads, Body 5x4mm, Pitch 1.27mm, IPC High Density)
footprint LT-S8-8_M (SOIC, 8-Leads, Body 5x4mm, Pitch 1.27mm, IPC Low Density)
pins: 1 VC "Compensation Pin for Error Amplifier. Connect a series RC from this pin to ground. Typical values are 47kohm and 100pF. Minimize trace area at VC.", 2 FB (in) "Feedback Pin. Reference voltage is 1.22V. Connect resistive divider tap here. Minimize trace area at FB. Set VOUT according to: VOUT = 1.22V(1 + R1/R2).", 3 ~{SHDN} (in) "Shutdown. Ground this pin to turn off switcher. To enable, tie to 1V or more. S\H\D\N\ does not need to be at VIN to enable the device.", 4 GND (power) "Ground. Connect directly to local ground plane. Ground plane should enclose all components associated with the LT1308. PCB copper connected to these pins also functions as a heat sink. For the TSSOP package, connect all pins (See Datasheet)", 5 SW "Switch Pins. Connect inductor/diode here. Minimize trace area at these pins to keep EMI down. For the TSSOP package, connect all SW pins together at the package.", 6 VIN (power) "Supply Pins. Must have local bypass capacitor right at the pins, connected directly to ground. For the TSSOP package, connect both VIN pins together at the package.", 7 LBI (in) "Low-Battery Detector Input. 200mV reference. Voltage on LBI must stay between -100mV and 1V. Low-battery detector does not function with S\H\D\N\ pin grounded. Float LBI pin if not used.", 8 LBO (hiz) "Low-Battery Detector Output. Open collector, can sink 50uA. A 220kohm pull-up is recommended. LBO is high impedance when S\H\D\N\ is grounded"

## LT1308ACS8#PBF
designator U?
Single Cell High Current Micropower 600 kHz Boost DC/DC Converter, 8-pin SOIC (S8-8), 0 to 70 degC, Pb-Free; Manufacturer: Linear Technology; PartNumber: LT1308ACS8#PBF; Number of Outputs: 1; DatasheetVersion: Rev. B; PackageVersion: Rev. G, 03/2012; PackageReference: S8-8; PackageDescription: 8-Pin Plastic Small Outline (Narrow .150 Inch), Body 4.9 x 3.9 mm, Pitch 1.27 mm; Supplier 1: Digi-Key; Supplier Part Number 1: LT1308ACS8#PBF-ND; Supplier 2: Farnell; Supplier Part Number 2: 1663406; Supplier 3: Newark; Supplier Part Number 3: 57M3245; RoHS: TRUE; Mounting Technology: Surface Mount; ComponentLink1Description: Manufacturer URL; ComponentLink1URL: http://www.linear.com/; ComponentLink2Description: Datasheet; ComponentLink2URL: http://cds.linear.com/docs/en/datasheet/1308abfb.pdf; ComponentLink3Description: Package Specification; ComponentLink3URL: http://cds.linear.com/docs/en/packaging/05081610_G_SO8.pdf
footprint LT-S8-8_N (SOIC, 8-Leads, Body 5x4mm, Pitch 1.27mm, IPC Medium Density)
footprint LT-S8-8_L (SOIC, 8-Leads, Body 5x4mm, Pitch 1.27mm, IPC High Density)
footprint LT-S8-8_M (SOIC, 8-Leads, Body 5x4mm, Pitch 1.27mm, IPC Low Density)
pins: 1 VC "Compensation Pin for Error Amplifier. Connect a series RC from this pin to ground. Typical values are 47kohm and 100pF. Minimize trace area at VC.", 2 FB (in) "Feedback Pin. Reference voltage is 1.22V. Connect resistive divider tap here. Minimize trace area at FB. Set VOUT according to: VOUT = 1.22V(1 + R1/R2).", 3 ~{SHDN} (in) "Shutdown. Ground this pin to turn off switcher. To enable, tie to 1V or more. S\H\D\N\ does not need to be at VIN to enable the device.", 4 GND (power) "Ground. Connect directly to local ground plane. Ground plane should enclose all components associated with the LT1308. PCB copper connected to these pins also functions as a heat sink. For the TSSOP package, connect all pins (See Datasheet)", 5 SW "Switch Pins. Connect inductor/diode here. Minimize trace area at these pins to keep EMI down. For the TSSOP package, connect all SW pins together at the package.", 6 VIN (power) "Supply Pins. Must have local bypass capacitor right at the pins, connected directly to ground. For the TSSOP package, connect both VIN pins together at the package.", 7 LBI (in) "Low-Battery Detector Input. 200mV reference. Voltage on LBI must stay between -100mV and 1V. Low-battery detector does not function with S\H\D\N\ pin grounded. Float LBI pin if not used.", 8 LBO (hiz) "Low-Battery Detector Output. Open collector, can sink 50uA. A 220kohm pull-up is recommended. LBO is high impedance when S\H\D\N\ is grounded"

## LT1308ACS8#TR
designator U?
Single Cell High Current Micropower 600 kHz Boost DC/DC Converter, 8-pin SOIC (S8-8), 0 to 70 degC, Tape and Reel; Manufacturer: Linear Technology; PartNumber: LT1308ACS8#TR; Number of Outputs: 1; DatasheetVersion: Rev. B; PackageVersion: Rev. G, 03/2012; PackageReference: S8-8; PackageDescription: 8-Pin Plastic Small Outline (Narrow .150 Inch), Body 4.9 x 3.9 mm, Pitch 1.27 mm; Supplier 1: Digi-Key; Supplier Part Number 1: LT1308ACS8#TR-ND; Packing: Tape and Reel; RoHS: FALSE; Mounting Technology: Surface Mount; ComponentLink1Description: Manufacturer URL; ComponentLink1URL: http://www.linear.com/; ComponentLink2Description: Datasheet; ComponentLink2URL: http://cds.linear.com/docs/en/datasheet/1308abfb.pdf; ComponentLink3Description: Package Specification; ComponentLink3URL: http://cds.linear.com/docs/en/packaging/05081610_G_SO8.pdf
footprint LT-S8-8_N (SOIC, 8-Leads, Body 5x4mm, Pitch 1.27mm, IPC Medium Density)
footprint LT-S8-8_L (SOIC, 8-Leads, Body 5x4mm, Pitch 1.27mm, IPC High Density)
footprint LT-S8-8_M (SOIC, 8-Leads, Body 5x4mm, Pitch 1.27mm, IPC Low Density)
pins: 1 VC "Compensation Pin for Error Amplifier. Connect a series RC from this pin to ground. Typical values are 47kohm and 100pF. Minimize trace area at VC.", 2 FB (in) "Feedback Pin. Reference voltage is 1.22V. Connect resistive divider tap here. Minimize trace area at FB. Set VOUT according to: VOUT = 1.22V(1 + R1/R2).", 3 ~{SHDN} (in) "Shutdown. Ground this pin to turn off switcher. To enable, tie to 1V or more. S\H\D\N\ does not need to be at VIN to enable the device.", 4 GND (power) "Ground. Connect directly to local ground plane. Ground plane should enclose all components associated with the LT1308. PCB copper connected to these pins also functions as a heat sink. For the TSSOP package, connect all pins (See Datasheet)", 5 SW "Switch Pins. Connect inductor/diode here. Minimize trace area at these pins to keep EMI down. For the TSSOP package, connect all SW pins together at the package.", 6 VIN (power) "Supply Pins. Must have local bypass capacitor right at the pins, connected directly to ground. For the TSSOP package, connect both VIN pins together at the package.", 7 LBI (in) "Low-Battery Detector Input. 200mV reference. Voltage on LBI must stay between -100mV and 1V. Low-battery detector does not function with S\H\D\N\ pin grounded. Float LBI pin if not used.", 8 LBO (hiz) "Low-Battery Detector Output. Open collector, can sink 50uA. A 220kohm pull-up is recommended. LBO is high impedance when S\H\D\N\ is grounded"

## LT1308ACS8#TRPBF
designator U?
Single Cell High Current Micropower 600 kHz Boost DC/DC Converter, 8-pin SOIC (S8-8), 0 to 70 degC, Pb-Free, Tape and Reel; Manufacturer: Linear Technology; PartNumber: LT1308ACS8#TRPBF; Number of Outputs: 1; DatasheetVersion: Rev. B; PackageVersion: Rev. G, 03/2012; PackageReference: S8-8; PackageDescription: 8-Pin Plastic Small Outline (Narrow .150 Inch), Body 4.9 x 3.9 mm, Pitch 1.27 mm; Supplier 1: Digi-Key; Supplier Part Number 1: LT1308ACS8#TRPBF-ND; Packing: Tape and Reel; RoHS: TRUE; Mounting Technology: Surface Mount; ComponentLink1Description: Manufacturer URL; ComponentLink1URL: http://www.linear.com/; ComponentLink2Description: Datasheet; ComponentLink2URL: http://cds.linear.com/docs/en/datasheet/1308abfb.pdf; ComponentLink3Description: Package Specification; ComponentLink3URL: http://cds.linear.com/docs/en/packaging/05081610_G_SO8.pdf
footprint LT-S8-8_N (SOIC, 8-Leads, Body 5x4mm, Pitch 1.27mm, IPC Medium Density)
footprint LT-S8-8_L (SOIC, 8-Leads, Body 5x4mm, Pitch 1.27mm, IPC High Density)
footprint LT-S8-8_M (SOIC, 8-Leads, Body 5x4mm, Pitch 1.27mm, IPC Low Density)
pins: 1 VC "Compensation Pin for Error Amplifier. Connect a series RC from this pin to ground. Typical values are 47kohm and 100pF. Minimize trace area at VC.", 2 FB (in) "Feedback Pin. Reference voltage is 1.22V. Connect resistive divider tap here. Minimize trace area at FB. Set VOUT according to: VOUT = 1.22V(1 + R1/R2).", 3 ~{SHDN} (in) "Shutdown. Ground this pin to turn off switcher. To enable, tie to 1V or more. S\H\D\N\ does not need to be at VIN to enable the device.", 4 GND (power) "Ground. Connect directly to local ground plane. Ground plane should enclose all components associated with the LT1308. PCB copper connected to these pins also functions as a heat sink. For the TSSOP package, connect all pins (See Datasheet)", 5 SW "Switch Pins. Connect inductor/diode here. Minimize trace area at these pins to keep EMI down. For the TSSOP package, connect all SW pins together at the package.", 6 VIN (power) "Supply Pins. Must have local bypass capacitor right at the pins, connected directly to ground. For the TSSOP package, connect both VIN pins together at the package.", 7 LBI (in) "Low-Battery Detector Input. 200mV reference. Voltage on LBI must stay between -100mV and 1V. Low-battery detector does not function with S\H\D\N\ pin grounded. Float LBI pin if not used.", 8 LBO (hiz) "Low-Battery Detector Output. Open collector, can sink 50uA. A 220kohm pull-up is recommended. LBO is high impedance when S\H\D\N\ is grounded"

## LT1308AIS8
designator U?
Single Cell High Current Micropower 600 kHz Boost DC/DC Converter, 8-pin SOIC (S8-8), -40 to 85 degC; Manufacturer: Linear Technology; PartNumber: LT1308AIS8; Number of Outputs: 1; DatasheetVersion: Rev. B; PackageVersion: Rev. G, 03/2012; PackageReference: S8-8; PackageDescription: 8-Pin Plastic Small Outline (Narrow .150 Inch), Body 4.9 x 3.9 mm, Pitch 1.27 mm; Supplier 1: Digi-Key; Supplier Part Number 1: LT1308AIS8-ND; Supplier 2: Newark; Supplier Part Number 2: 57M3248; RoHS: FALSE; Mounting Technology: Surface Mount; ComponentLink1Description: Manufacturer URL; ComponentLink1URL: http://www.linear.com/; ComponentLink2Description: Datasheet; ComponentLink2URL: http://cds.linear.com/docs/en/datasheet/1308abfb.pdf; ComponentLink3Description: Package Specification; ComponentLink3URL: http://cds.linear.com/docs/en/packaging/05081610_G_SO8.pdf
footprint LT-S8-8_N (SOIC, 8-Leads, Body 5x4mm, Pitch 1.27mm, IPC Medium Density)
footprint LT-S8-8_L (SOIC, 8-Leads, Body 5x4mm, Pitch 1.27mm, IPC High Density)
footprint LT-S8-8_M (SOIC, 8-Leads, Body 5x4mm, Pitch 1.27mm, IPC Low Density)
pins: 1 VC "Compensation Pin for Error Amplifier. Connect a series RC from this pin to ground. Typical values are 47kohm and 100pF. Minimize trace area at VC.", 2 FB (in) "Feedback Pin. Reference voltage is 1.22V. Connect resistive divider tap here. Minimize trace area at FB. Set VOUT according to: VOUT = 1.22V(1 + R1/R2).", 3 ~{SHDN} (in) "Shutdown. Ground this pin to turn off switcher. To enable, tie to 1V or more. S\H\D\N\ does not need to be at VIN to enable the device.", 4 GND (power) "Ground. Connect directly to local ground plane. Ground plane should enclose all components associated with the LT1308. PCB copper connected to these pins also functions as a heat sink. For the TSSOP package, connect all pins (See Datasheet)", 5 SW "Switch Pins. Connect inductor/diode here. Minimize trace area at these pins to keep EMI down. For the TSSOP package, connect all SW pins together at the package.", 6 VIN (power) "Supply Pins. Must have local bypass capacitor right at the pins, connected directly to ground. For the TSSOP package, connect both VIN pins together at the package.", 7 LBI (in) "Low-Battery Detector Input. 200mV reference. Voltage on LBI must stay between -100mV and 1V. Low-battery detector does not function with S\H\D\N\ pin grounded. Float LBI pin if not used.", 8 LBO (hiz) "Low-Battery Detector Output. Open collector, can sink 50uA. A 220kohm pull-up is recommended. LBO is high impedance when S\H\D\N\ is grounded"